# EAGLE library part CDTV-EXPANSION (library Amiga)
Expansion Port for CDTV and A570
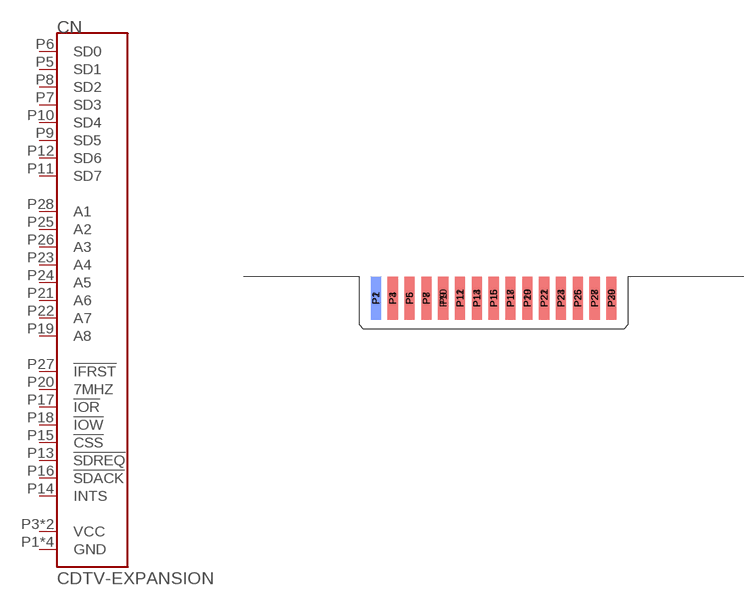
[diagram p0: symbol with the pads of CDTV-SLOT; footprint CDTV-SLOT]

Designator prefix CN

## CDTV-EXPANSION  [CDTV-SLOT]
P1  GND  pwr
P2  GND  pwr
P3  VCC  pwr
P4  VCC  pwr
P5  SD1
P6  SD0
P7  SD3
P8  SD2
P9  SD5
P10  SD4
P11  SD7
P12  SD6
P13  !SDREQ  out
P14  INTS  in
P15  !CSS  out
P16  !SDACK  out
P17  !IOR  out
P18  !IOW  out
P19  A8  out
P20  7MHZ  out
P21  A6  out
P22  A7  out
P23  A4  out
P24  A5  out
P25  A2  out
P26  A3  out
P27  !IFRST  out
P28  A1  out
P29  GND  pwr
P30  GND  pwr

## Footprint CDTV-SLOT (pad centres in mm)
smd 1.524 x 6.477: P1 -17.78,-2.54; P3 -15.24,-2.54; P5 -12.7,-2.54; P7 -10.16,-2.54; P9 -7.62,-2.54; P11 -5.08,-2.54; P13 -2.54,-2.54; P15 0,-2.54; P17 2.54,-2.54; P19 5.08,-2.54; P21 7.62,-2.54; P23 10.16,-2.54; P25 12.7,-2.54; P27 15.24,-2.54; P29 17.78,-2.54
smd 1.524 x 6.477 bottom: P2 -17.78,-2.54; P4 -15.24,-2.54; P6 -12.7,-2.54; P8 -10.16,-2.54; P10 -7.62,-2.54; P12 -5.08,-2.54; P14 -2.54,-2.54; P16 0,-2.54; P18 2.54,-2.54; P20 5.08,-2.54; P22 7.62,-2.54; P24 10.16,-2.54; P26 12.7,-2.54; P28 15.24,-2.54; P30 17.78,-2.54